# Altium schematic symbol library TOUCH KEY.Schlib: 1 symbol
Pins are listed as number, name and electrical type; pins without a type are passive.

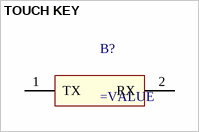
[diagram p0: symbol TOUCH KEY]

## TOUCH KEY
designator B?
pins: 1 TX, 2 RX